# EAGLE library part MC14082B (library magic)
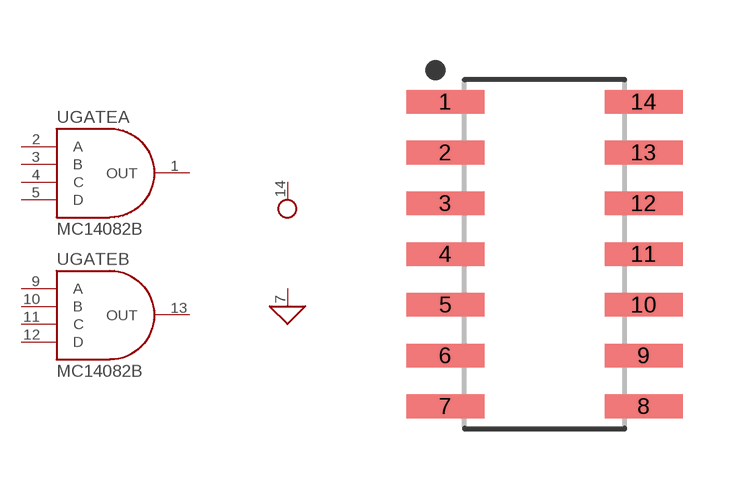
[diagram p6: symbol with the pads of MC140XXBG; footprint MC140XXBG]

Designator prefix -; gates GATEA=4-INPUT_AND GATEB=4-INPUT_AND VDD=PWR GND=GND

## MC14082B  [MC140XXBG]
1  GATEA:OUT
2  GATEA:A
3  GATEA:B
4  GATEA:C
5  GATEA:D
7  GND:1
9  GATEB:A
10  GATEB:B
11  GATEB:C
12  GATEB:D
13  GATEB:OUT
14  VDD:1

## Footprint MC140XXBG (pad centres in mm)
14-SOIC, 1.27 mm pitch, 6.00 mm span, 8.65 X 3.90 X 1.75 mm body 14-pin SOIC package with 1.27 mm pitch, 6.00 mm span with body size 8.65 X 3.90 X 1.75 mm
smd 1.952 x 0.589: 1 -2.482,3.81; 2 -2.482,2.54; 3 -2.482,1.27; 4 -2.482,0; 5 -2.482,-1.27; 6 -2.482,-2.54; 7 -2.482,-3.81; 8 2.482,-3.81; 9 2.482,-2.54; 10 2.482,-1.27; 11 2.482,0; 12 2.482,1.27; 13 2.482,2.54; 14 2.482,3.81